# EAGLE library part MOSFET_DRIVER (library ic-power)
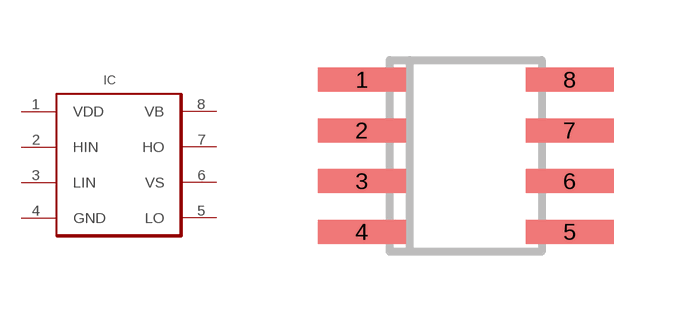
[diagram p2: symbol with the pads of SO-08; footprint SO-08]

Designator prefix IC

## MOSFET_DRIVER  [SO-08]
1  VDD  pas
2  HIN  in
3  LIN  in
4  GND  pas
5  LO  pas
6  VS  pas
7  HO  pas
8  VB  pas

## Footprint SO-08 (pad centres in mm)
Small Outline Narrow Plastic Gull Wing 150-mil body, package type SN
smd 2.2 x 0.6: 1 -2.6,1.905; 2 -2.6,0.635; 3 -2.6,-0.635; 4 -2.6,-1.905; 5 2.6,-1.905; 6 2.6,-0.635; 7 2.6,0.635; 8 2.6,1.905